# EAGLE library part KELLY (library Amiga)
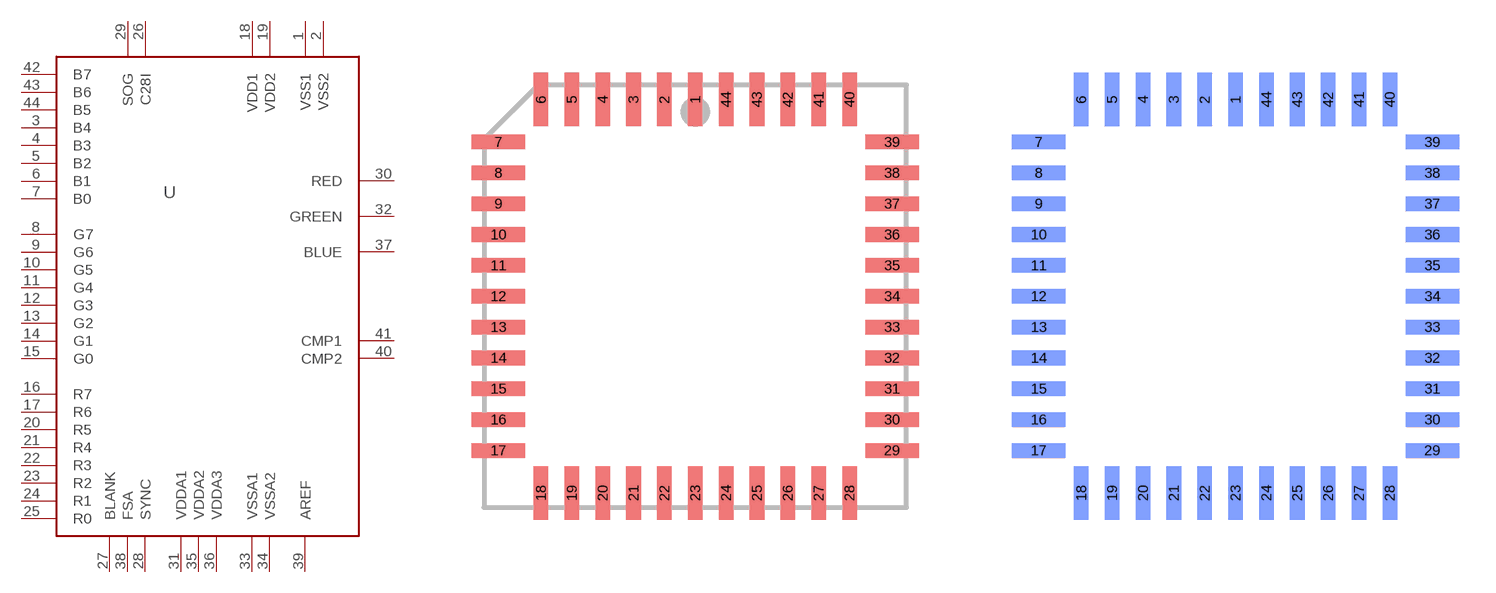
[diagram p45: symbol with the pads of PLCC44_S; footprints PLCC44_S, PLCC44_S_BUTTON_PAD]

Designator prefix -

## KELLY  [PLCC44_S]
1  VSS1  pwr
2  VSS2  pwr
3  B4  in
4  B3  in
5  B2  in
6  B1  in
7  B0  in
8  G7  in
9  G6  in
10  G5  in
11  G4  in
12  G3  in
13  G2  in
14  G1  in
15  G0  in
16  R7  in
17  R6  in
18  VDD1  pwr
19  VDD2  pwr
20  R5  in
21  R4  in
22  R3  in
23  R2  in
24  R1  in
25  R0  in
26  C28I  in
27  BLANK  in
28  SYNC  in
29  SOG  in
30  RED  out
31  VDDA1  pwr
32  GREEN  out
33  VSSA1  pwr
34  VSSA2  pwr
35  VDDA2  pwr
36  VDDA3  pwr
37  BLUE  out
38  FSA  in
39  AREF  in
40  CMP2  out
41  CMP1  out
42  B7  in
43  B6  in
44  B5  in

## KELLY_BOTTOM_ADAPTER  [PLCC44_S_BUTTON_PAD]
Pads as for PLCC44_S

## Footprint PLCC44_S (pad centres in mm)
PLASTIC LEADED CHIP CARRIER square
smd 0.6 x 2.2: 1 0,8.1; 2 -1.27,8.1; 3 -2.54,8.1; 4 -3.81,8.1; 5 -5.08,8.1; 6 -6.35,8.1; 18 -6.35,-8.1; 19 -5.08,-8.1; 20 -3.81,-8.1; 21 -2.54,-8.1; 22 -1.27,-8.1; 23 0,-8.1; 24 1.27,-8.1; 25 2.54,-8.1; 26 3.81,-8.1; 27 5.08,-8.1; 28 6.35,-8.1; 40 6.35,8.1; 41 5.08,8.1; 42 3.81,8.1; 43 2.54,8.1; 44 1.27,8.1
smd 2.2 x 0.6: 7 -8.1,6.35; 8 -8.1,5.08; 9 -8.1,3.81; 10 -8.1,2.54; 11 -8.1,1.27; 12 -8.1,0; 13 -8.1,-1.27; 14 -8.1,-2.54; 15 -8.1,-3.81; 16 -8.1,-5.08; 17 -8.1,-6.35; 29 8.1,-6.35; 30 8.1,-5.08; 31 8.1,-3.81; 32 8.1,-2.54; 33 8.1,-1.27; 34 8.1,0; 35 8.1,1.27; 36 8.1,2.54; 37 8.1,3.81; 38 8.1,5.08; 39 8.1,6.35

## Footprint PLCC44_S_BUTTON_PAD (pad centres in mm)
smd 0.6 x 2.2 bottom: 1 0,8.1; 2 -1.27,8.1; 3 -2.54,8.1; 4 -3.81,8.1; 5 -5.08,8.1; 6 -6.35,8.1; 18 -6.35,-8.1; 19 -5.08,-8.1; 20 -3.81,-8.1; 21 -2.54,-8.1; 22 -1.27,-8.1; 23 0,-8.1; 24 1.27,-8.1; 25 2.54,-8.1; 26 3.81,-8.1; 27 5.08,-8.1; 28 6.35,-8.1; 40 6.35,8.1; 41 5.08,8.1; 42 3.81,8.1; 43 2.54,8.1; 44 1.27,8.1
smd 2.2 x 0.6 bottom: 7 -8.1,6.35; 8 -8.1,5.08; 9 -8.1,3.81; 10 -8.1,2.54; 11 -8.1,1.27; 12 -8.1,0; 13 -8.1,-1.27; 14 -8.1,-2.54; 15 -8.1,-3.81; 16 -8.1,-5.08; 17 -8.1,-6.35; 29 8.1,-6.35; 30 8.1,-5.08; 31 8.1,-3.81; 32 8.1,-2.54; 33 8.1,-1.27; 34 8.1,0; 35 8.1,1.27; 36 8.1,2.54; 37 8.1,3.81; 38 8.1,5.08; 39 8.1,6.35